# Altium schematic symbol library U_CY8C27243-24PVI.Schlib: 1 symbol
Pins are listed as number, name and electrical type; pins without a type are passive.

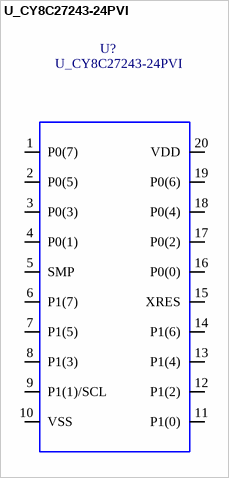
[diagram p0: symbol U_CY8C27243-24PVI]

## U_CY8C27243-24PVI
designator U?
pins: 1 P0(7), 2 P0(5), 3 P0(3), 4 P0(1), 5 SMP, 6 P1(7), 7 P1(5), 8 P1(3), 9 P1(1)/SCL, 10 VSS, 11 P1(0), 12 P1(2), 13 P1(4), 14 P1(6), 15 XRES, 16 P0(0), 17 P0(2), 18 P0(4), 19 P0(6), 20 VDD